# Altium footprint library 1N4007FL.PcbLib: 3 footprints
Each footprint in its own frame and in the unit in brackets; x right, y up, seen from the top. Pads: shape width x height; smd on the part's side, far side on the other; paste and mask are expansions set on the pad; w line width, h text height; cw(c..) or ccw(c..) is an arc to the next point about the centre after c.
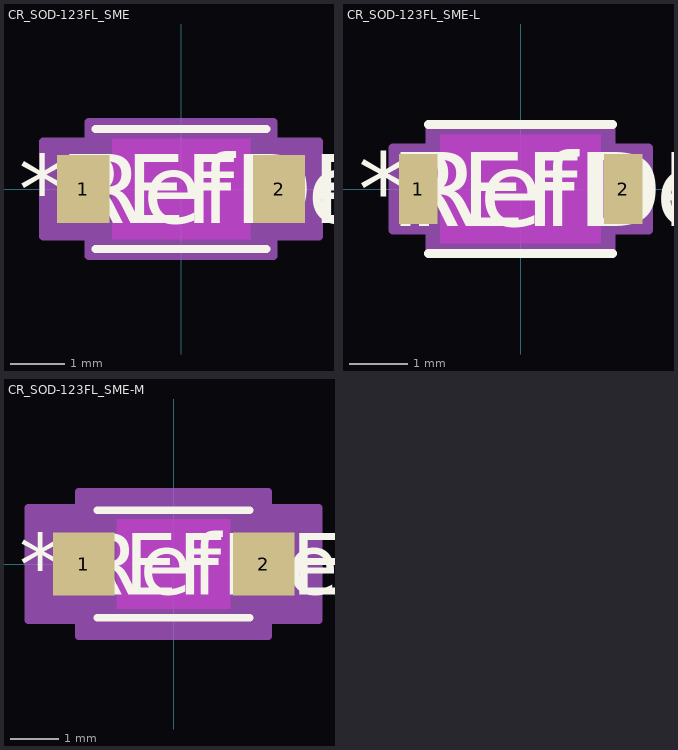
[diagram p0: the footprints below, top view; thin cyan lines are the x and y axes]

## CR_SOD-123FL_SME [mil]
pads (2):
  rect 38x49 smd paste+0 mask+0: 1(-71,0) 2(71,0)
Top Overlay:
  lines w6: -62,-43.5 62,-43.5 ; -62,43.5 62,43.5
  text "REFDES" at -87.5,-25 h50
  text "*" at -117.5,-25 h50
  text "RefDes" at -75,-25 h50
Keep-Out Layer:
  region: -50,-36.5 -50,36.5 50,36.5 50,-36.5
Mechanical 13:
  lines w1: -57,-19.25 -37.75,-38.5 ; -57,19.25 -37.75,38.5 ; -76,-23.5 -76,23.5 -57,23.5 -57,-23.5 -76,-23.5 ; -57,-38.5 57,-38.5 57,38.5 -57,38.5 -57,-38.5 ; 57,-23.5 57,23.5 76,23.5 76,-23.5 57,-23.5
  text "*" at -59.5,-25 h50
  text "RefDes2" at -87.5,-25 h50
Mechanical 15:
  region: -67,-34.5 -100,-34.5 -100,34.5 -67,34.5 -67,48.5 67,48.5 67,34.5 100,34.5 100,-34.5 67,-34.5 67,-48.5 -67,-48.5
  lines w6: -100,-34.5 -100,34.5 -67,34.5 -67,48.5 67,48.5 67,34.5 100,34.5 100,-34.5 67,-34.5 67,-48.5 -67,-48.5 -67,-34.5 -100,-34.5
3D body "CR_SOD-123FL_SME.step": height 55.12, standoff 0, extent -75.98,-38.5 75.98,38.5

## CR_SOD-123FL_SME-L [mil]
pads (2):
  rect 26x47 smd paste+0 mask+0: 1(-69,0) 2(69,0)
Top Overlay:
  lines w6: -62,-43.5 62,-43.5 ; -62,43.5 62,43.5
  text "REFDES" at -87.5,-25 h50
  text "*" at -109.5,-25 h50
  text "RefDes" at -75,-25 h50
Keep-Out Layer:
  region: -54,-36.5 -54,36.5 54,36.5 54,-36.5
Mechanical 13:
  lines w1: -57,-19.25 -37.75,-38.5 ; -57,19.25 -37.75,38.5 ; -76,-23.5 -76,23.5 -57,23.5 -57,-23.5 -76,-23.5 ; -57,-38.5 57,-38.5 57,38.5 -57,38.5 -57,-38.5 ; 57,-23.5 57,23.5 76,23.5 76,-23.5 57,-23.5
  text "*" at -59.5,-25 h50
  text "RefDes2" at -87.5,-25 h50
Mechanical 15:
  region: -61,-27.5 -86,-27.5 -86,27.5 -61,27.5 -61,42.5 61,42.5 61,27.5 86,27.5 86,-27.5 61,-27.5 61,-42.5 -61,-42.5
  lines w6: -86,-27.5 -86,27.5 -61,27.5 -61,42.5 61,42.5 61,27.5 86,27.5 86,-27.5 61,-27.5 61,-42.5 -61,-42.5 -61,-27.5 -86,-27.5
3D body "CR_SOD-123FL_SME.step": height 55.12, standoff 0, extent -75.98,-38.5 75.98,38.5

## CR_SOD-123FL_SME-M [mil]
pads (2):
  rect 50x51 smd paste+0 mask+0: 1(-73,0) 2(73,0)
Top Overlay:
  lines w6: -62,-43.5 62,-43.5 ; -62,43.5 62,43.5
  text "REFDES" at -87.5,-25 h50
  text "*" at -125.5,-25 h50
  text "RefDes" at -75,-25 h50
Keep-Out Layer:
  region: -46,-36.5 -46,36.5 46,36.5 46,-36.5
Mechanical 13:
  lines w1: -57,-19.25 -37.75,-38.5 ; -57,19.25 -37.75,38.5 ; -76,-23.5 -76,23.5 -57,23.5 -57,-23.5 -76,-23.5 ; -57,-38.5 57,-38.5 57,38.5 -57,38.5 -57,-38.5 ; 57,-23.5 57,23.5 76,23.5 76,-23.5 57,-23.5
  text "*" at -59.5,-25 h50
  text "RefDes2" at -87.5,-25 h50
Mechanical 15:
  region: -77,-45.5 -118,-45.5 -118,45.5 -77,45.5 -77,58.5 77,58.5 77,45.5 118,45.5 118,-45.5 77,-45.5 77,-58.5 -77,-58.5
  lines w6: -118,-45.5 -118,45.5 -77,45.5 -77,58.5 77,58.5 77,45.5 118,45.5 118,-45.5 77,-45.5 77,-58.5 -77,-58.5 -77,-45.5 -118,-45.5
3D body "CR_SOD-123FL_SME.step": height 55.12, standoff 0, extent -75.98,-38.5 75.98,38.5